# EAGLE library part 662010231722 (library Wuerth_Elektronik_eiCan_08_Micro_Power_Connectors)
WR-MPC3 3.00mm Male Dual Row SMT Angled Header SMT Fitting Nail Clip, 10 Pins
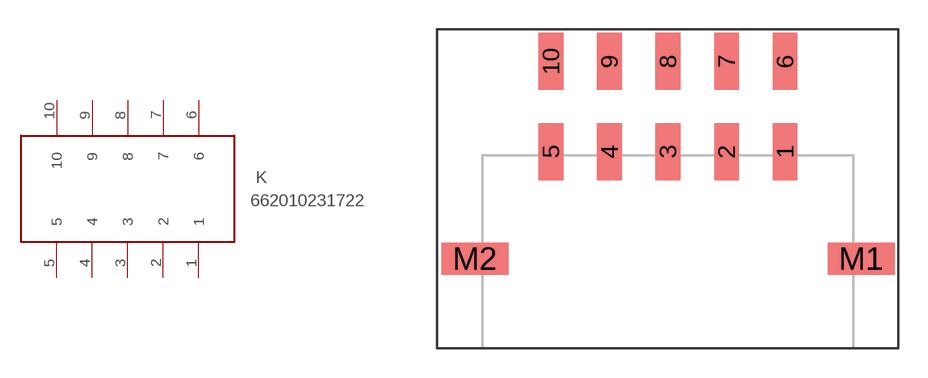
[diagram p62: symbol with the pads of 662010231722; footprint 662010231722]

Designator prefix K

## 662010231722  [662010231722]
1  1
2  2
3  3
4  4
5  5
6  6
7  7
8  8
9  9
10  10

## Footprint 662010231722 (pad centres in mm)
WR-MPC3 3.00mm Male Dual Row SMT Angled Header SMT Fitting Nail Clip, 10 Pins
smd 1.27 x 2.92: 1 0,-2.31; 2 -3,-2.31; 3 -6,-2.31; 4 -9,-2.31; 5 -12,-2.31; 6 0,2.31; 7 -3,2.31; 8 -6,2.31; 9 -9,2.31; 10 -12,2.31
smd 3.43 x 1.65: M1 3.895,-7.79; M2 -15.895,-7.79